# EAGLE library part TPS7A4700 (library wheat)
Low noise LDO, TPS7A4700. TPA7A4701
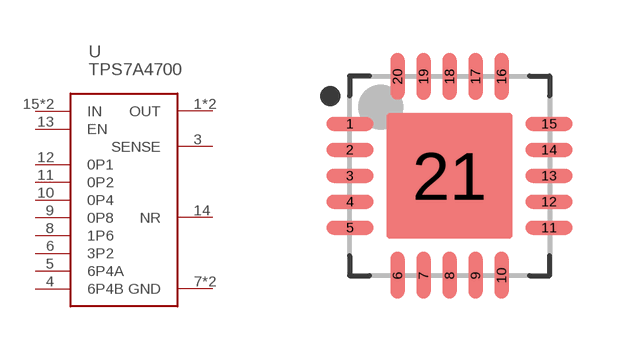
[diagram p240: symbol with the pads of QFN20_5X5; footprint QFN20_5X5]

Designator prefix U

## TPS7A4700RGW  [QFN20_5X5]
1  OUT
3  SENSE
4  6P4B
5  6P4A
6  3P2
7  GND
8  1P6
9  0P8
10  0P4
11  0P2
12  0P1
13  EN
14  NR
15  IN
16  IN
20  OUT
21  GND

## Footprint QFN20_5X5 (pad centres in mm)
QFN20 5x5 TI
smd 1.175 x 0.35: 1 -2.49,1.3; 2 -2.49,0.65; 3 -2.49,0; 4 -2.49,-0.65; 5 -2.49,-1.3; 11 2.49,-1.3; 12 2.49,-0.65; 13 2.49,0; 14 2.49,0.65; 15 2.49,1.3
smd 0.35 x 1.175: 6 -1.3,-2.49; 7 -0.65,-2.49; 8 0,-2.49; 9 0.65,-2.49; 10 1.3,-2.49; 16 1.3,2.49; 17 0.65,2.49; 18 0,2.49; 19 -0.65,2.49; 20 -1.3,2.49
smd 3.15 x 3.15: 21 0,0